# Altium schematic symbol library TestBoard.SchLib: 2 symbols
Pins are listed as number, name and electrical type; pins without a type are passive.

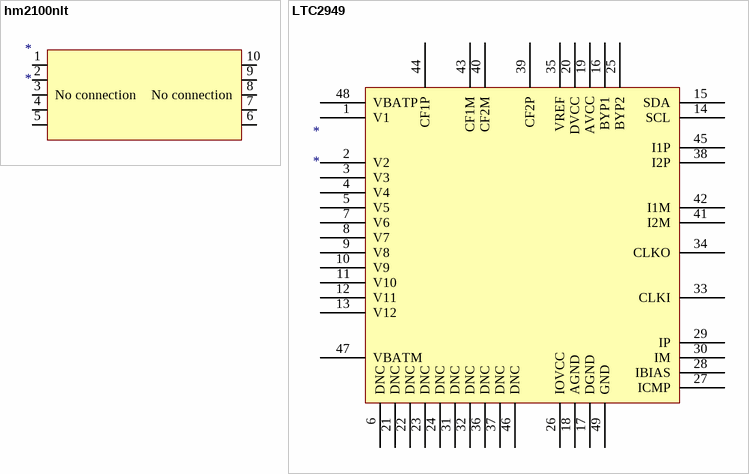
[diagram p0: symbols hm2100nlt to LTC2949]

## hm2100nlt
designator *
pins: 1, 2, 3 No connection, 4, 5, 6, 7, 8 No connection, 9, 10

## LTC2949
designator *
pins: 1 V1, 2 V2, 3 V3, 4 V4, 5 V5, 6 DNC, 7 V6, 8 V7, 9 V8, 10 V9, 11 V10, 12 V11, 13 V12, 14 SCL, 15 SDA, 16 BYP1 (power), 17 DGND (power), 18 AGND (power), 19 AVCC (power), 20 DVCC (power), 21 DNC, 22 DNC, 23 DNC, 24 DNC, 25 BYP2 (power), 26 IOVCC (power), 27 ICMP, 28 IBIAS, 29 IP, 30 IM, 31 DNC, 32 DNC, 33 CLKI, 34 CLKO, 35 VREF (power), 36 DNC, 37 DNC, 38 I2P, 39 CF2P, 40 CF2M, 41 I2M, 42 I1M, 43 CF1M, 44 CF1P, 45 I1P, 46 DNC, 47 VBATM, 48 VBATP, 49 GND (power)